# EAGLE library part EPC2* (library mita-akiba)
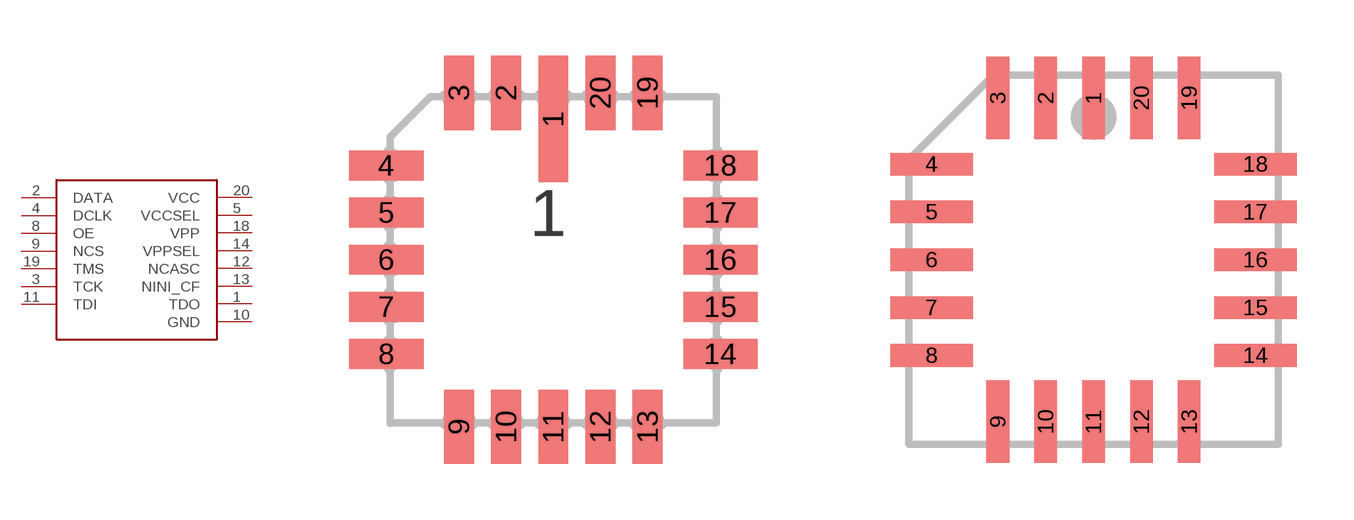
[diagram p9: symbol with the pads of LCC-20; footprints LCC-20, PLCC20S]

Designator prefix -

## EPC2LCC  [LCC-20]
1  TDO
2  DATA
3  TCK
4  DCLK
5  VCCSEL
8  OE
9  NCS
10  GND
11  TDI
12  NCASC
13  NINI_CF
14  VPPSEL
18  VPP
19  TMS
20  VCC

## EPC2PLCC  [PLCC20S]
Pads as for LCC-20

## Footprint LCC-20 (pad centres in mm)
LEADLESS CERAMIC CHIP CARRIER
smd 0.8 x 3.4: 1 0,3.8
smd 0.8 x 2: 2 -1.27,4.5; 3 -2.54,4.5; 9 -2.54,-4.5; 10 -1.27,-4.5; 11 0,-4.5; 12 1.27,-4.5; 13 2.54,-4.5; 19 2.54,4.5; 20 1.27,4.5
smd 2 x 0.8: 4 -4.5,2.54; 5 -4.5,1.27; 6 -4.5,0; 7 -4.5,-1.27; 8 -4.5,-2.54; 14 4.5,-2.54; 15 4.5,-1.27; 16 4.5,0; 17 4.5,1.27; 18 4.5,2.54

## Footprint PLCC20S (pad centres in mm)
PLASTIC LEADED CHIP CARRIER square
smd 0.6 x 2.2: 1 0,4.3; 2 -1.27,4.3; 3 -2.54,4.3; 9 -2.54,-4.3; 10 -1.27,-4.3; 11 0,-4.3; 12 1.27,-4.3; 13 2.54,-4.3; 19 2.54,4.3; 20 1.27,4.3
smd 2.2 x 0.6: 4 -4.3,2.54; 5 -4.3,1.27; 6 -4.3,0; 7 -4.3,-1.27; 8 -4.3,-2.54; 14 4.3,-2.54; 15 4.3,-1.27; 16 4.3,0; 17 4.3,1.27; 18 4.3,2.54